# EAGLE library part RNX5 (library discrete)
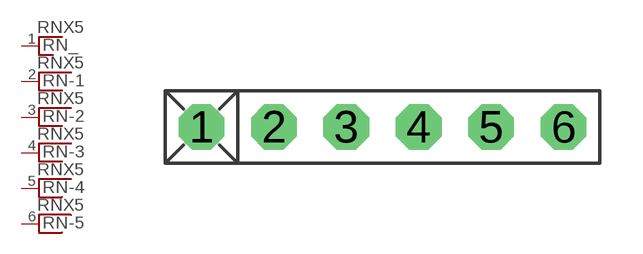
[diagram p6: symbol with the pads of RN-6; footprint RN-6]

Designator prefix RN; gates _=RN_1 -1=RNX -2=RNX -3=RNX -4=RNX -5=RNX

## RNX5  [RN-6]
1  _:1  pas
2  -1:1  pas
3  -2:1  pas
4  -3:1  pas
5  -4:1  pas
6  -5:1  pas

## Footprint RN-6 (pad centres in mm)
drill 0.813 pad 1.6 octagon: 1 -6.35,0; 2 -3.81,0; 3 -1.27,0; 4 1.27,0; 5 3.81,0; 6 6.35,0